# Altium footprint library ad.PcbLib: 129 footprints (part 4 of 12)
Each footprint in its own frame and in the unit in brackets; x right, y up, seen from the top. Pads: shape width x height; smd on the part's side, far side on the other; paste and mask are expansions set on the pad; w line width, h text height; cw(c..) or ccw(c..) is an arc to the next point about the centre after c.
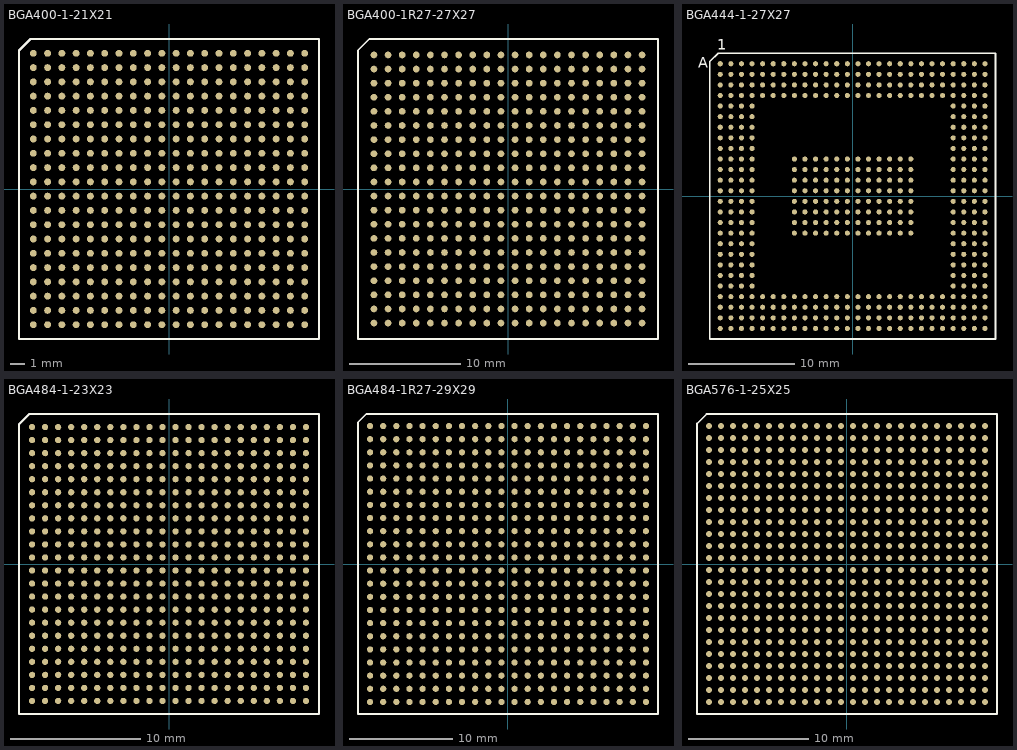
[diagram p3: the footprints below, top view; thin cyan lines are the x and y axes]

## BGA400-1-21X21 [mm]
pads (400):
  round 0.48 smd: A1(-9.5,9.5) A2(-8.5,9.5) A3(-7.5,9.5) A4(-6.5,9.5) A5(-5.5,9.5) A6(-4.5,9.5) A7(-3.5,9.5) A8(-2.5,9.5) A9(-1.5,9.5) A10(-0.5,9.5) A11(0.5,9.5) A12(1.5,9.5) A13(2.5,9.5) A14(3.5,9.5) A15(4.5,9.5) A16(5.5,9.5) A17(6.5,9.5) A18(7.5,9.5) A19(8.5,9.5) A20(9.5,9.5) B1(-9.5,8.5) B2(-8.5,8.5) B3(-7.5,8.5) B4(-6.5,8.5) B5(-5.5,8.5) B6(-4.5,8.5) B7(-3.5,8.5) B8(-2.5,8.5) B9(-1.5,8.5) B10(-0.5,8.5) B11(0.5,8.5) B12(1.5,8.5) B13(2.5,8.5) B14(3.5,8.5) B15(4.5,8.5) B16(5.5,8.5) B17(6.5,8.5) B18(7.5,8.5) B19(8.5,8.5) B20(9.5,8.5) C1(-9.5,7.5) C2(-8.5,7.5) C3(-7.5,7.5) C4(-6.5,7.5) C5(-5.5,7.5) C6(-4.5,7.5) C7(-3.5,7.5) C8(-2.5,7.5) C9(-1.5,7.5) C10(-0.5,7.5) C11(0.5,7.5) C12(1.5,7.5) C13(2.5,7.5) C14(3.5,7.5) C15(4.5,7.5) C16(5.5,7.5) C17(6.5,7.5) C18(7.5,7.5) C19(8.5,7.5) C20(9.5,7.5) D1(-9.5,6.5) D2(-8.5,6.5) D3(-7.5,6.5) D4(-6.5,6.5) D5(-5.5,6.5) D6(-4.5,6.5) D7(-3.5,6.5) D8(-2.5,6.5) D9(-1.5,6.5) D10(-0.5,6.5) D11(0.5,6.5) D12(1.5,6.5) D13(2.5,6.5) D14(3.5,6.5) D15(4.5,6.5) D16(5.5,6.5) D17(6.5,6.5) D18(7.5,6.5) D19(8.5,6.5) D20(9.5,6.5) E1(-9.5,5.5) E2(-8.5,5.5) E3(-7.5,5.5) E4(-6.5,5.5) E5(-5.5,5.5) E6(-4.5,5.5) E7(-3.5,5.5) E8(-2.5,5.5) E9(-1.5,5.5) E10(-0.5,5.5) E11(0.5,5.5) E12(1.5,5.5) E13(2.5,5.5) E14(3.5,5.5) E15(4.5,5.5) E16(5.5,5.5) E17(6.5,5.5) E18(7.5,5.5) E19(8.5,5.5) E20(9.5,5.5) F1(-9.5,4.5) F2(-8.5,4.5) F3(-7.5,4.5) F4(-6.5,4.5) F5(-5.5,4.5) F6(-4.5,4.5) F7(-3.5,4.5) F8(-2.5,4.5) F9(-1.5,4.5) F10(-0.5,4.5) F11(0.5,4.5) F12(1.5,4.5) F13(2.5,4.5) F14(3.5,4.5) F15(4.5,4.5) F16(5.5,4.5) F17(6.5,4.5) F18(7.5,4.5) F19(8.5,4.5) F20(9.5,4.5) G1(-9.5,3.5) G2(-8.5,3.5) G3(-7.5,3.5) G4(-6.5,3.5) G5(-5.5,3.5) G6(-4.5,3.5) G7(-3.5,3.5) G8(-2.5,3.5) G9(-1.5,3.5) G10(-0.5,3.5) G11(0.5,3.5) G12(1.5,3.5) G13(2.5,3.5) G14(3.5,3.5) G15(4.5,3.5) G16(5.5,3.5) G17(6.5,3.5) G18(7.5,3.5) G19(8.5,3.5) G20(9.5,3.5) H1(-9.5,2.5) H2(-8.5,2.5) H3(-7.5,2.5) H4(-6.5,2.5) H5(-5.5,2.5) H6(-4.5,2.5) H7(-3.5,2.5) H8(-2.5,2.5) H9(-1.5,2.5) H10(-0.5,2.5) H11(0.5,2.5) H12(1.5,2.5) H13(2.5,2.5) H14(3.5,2.5) H15(4.5,2.5) H16(5.5,2.5) H17(6.5,2.5) H18(7.5,2.5) H19(8.5,2.5) H20(9.5,2.5) J1(-9.5,1.5) J2(-8.5,1.5) J3(-7.5,1.5) J4(-6.5,1.5) J5(-5.5,1.5) J6(-4.5,1.5) J7(-3.5,1.5) J8(-2.5,1.5) J9(-1.5,1.5) J10(-0.5,1.5) J11(0.5,1.5) J12(1.5,1.5) J13(2.5,1.5) J14(3.5,1.5) J15(4.5,1.5) J16(5.5,1.5) J17(6.5,1.5) J18(7.5,1.5) J19(8.5,1.5) J20(9.5,1.5) K1(-9.5,0.5) K2(-8.5,0.5) K3(-7.5,0.5) K4(-6.5,0.5) K5(-5.5,0.5) K6(-4.5,0.5) K7(-3.5,0.5) K8(-2.5,0.5) K9(-1.5,0.5) K10(-0.5,0.5) K11(0.5,0.5) K12(1.5,0.5) K13(2.5,0.5) K14(3.5,0.5) K15(4.5,0.5) K16(5.5,0.5) K17(6.5,0.5) K18(7.5,0.5) K19(8.5,0.5) K20(9.5,0.5) L1(-9.5,-0.5) L2(-8.5,-0.5) L3(-7.5,-0.5) L4(-6.5,-0.5) L5(-5.5,-0.5) L6(-4.5,-0.5) L7(-3.5,-0.5) L8(-2.5,-0.5) L9(-1.5,-0.5) L10(-0.5,-0.5) L11(0.5,-0.5) L12(1.5,-0.5) L13(2.5,-0.5) L14(3.5,-0.5) L15(4.5,-0.5) L16(5.5,-0.5) L17(6.5,-0.5) L18(7.5,-0.5) L19(8.5,-0.5) L20(9.5,-0.5) M1(-9.5,-1.5) M2(-8.5,-1.5) M3(-7.5,-1.5) M4(-6.5,-1.5) M5(-5.5,-1.5) M6(-4.5,-1.5) M7(-3.5,-1.5) M8(-2.5,-1.5) M9(-1.5,-1.5) M10(-0.5,-1.5) M11(0.5,-1.5) M12(1.5,-1.5) M13(2.5,-1.5) M14(3.5,-1.5) M15(4.5,-1.5) M16(5.5,-1.5) M17(6.5,-1.5) M18(7.5,-1.5) M19(8.5,-1.5) M20(9.5,-1.5) N1(-9.5,-2.5) N2(-8.5,-2.5) N3(-7.5,-2.5) N4(-6.5,-2.5) N5(-5.5,-2.5) N6(-4.5,-2.5) N7(-3.5,-2.5) N8(-2.5,-2.5) N9(-1.5,-2.5) N10(-0.5,-2.5) N11(0.5,-2.5) N12(1.5,-2.5) N13(2.5,-2.5) N14(3.5,-2.5) N15(4.5,-2.5) N16(5.5,-2.5) N17(6.5,-2.5) N18(7.5,-2.5) N19(8.5,-2.5) N20(9.5,-2.5) P1(-9.5,-3.5) P2(-8.5,-3.5) P3(-7.5,-3.5) P4(-6.5,-3.5) P5(-5.5,-3.5) P6(-4.5,-3.5) P7(-3.5,-3.5) P8(-2.5,-3.5) P9(-1.5,-3.5) P10(-0.5,-3.5) P11(0.5,-3.5) P12(1.5,-3.5) P13(2.5,-3.5) P14(3.5,-3.5) P15(4.5,-3.5) P16(5.5,-3.5) P17(6.5,-3.5) P18(7.5,-3.5) P19(8.5,-3.5) P20(9.5,-3.5) R1(-9.5,-4.5) R2(-8.5,-4.5) R3(-7.5,-4.5) R4(-6.5,-4.5) R5(-5.5,-4.5) R6(-4.5,-4.5) R7(-3.5,-4.5) R8(-2.5,-4.5) R9(-1.5,-4.5) R10(-0.5,-4.5) R11(0.5,-4.5) R12(1.5,-4.5) R13(2.5,-4.5) R14(3.5,-4.5) R15(4.5,-4.5) R16(5.5,-4.5) R17(6.5,-4.5) R18(7.5,-4.5) R19(8.5,-4.5) R20(9.5,-4.5) T1(-9.5,-5.5) T2(-8.5,-5.5) T3(-7.5,-5.5) T4(-6.5,-5.5) T5(-5.5,-5.5) T6(-4.5,-5.5) T7(-3.5,-5.5) T8(-2.5,-5.5) T9(-1.5,-5.5) T10(-0.5,-5.5) T11(0.5,-5.5) T12(1.5,-5.5) T13(2.5,-5.5) T14(3.5,-5.5) T15(4.5,-5.5) T16(5.5,-5.5) T17(6.5,-5.5) T18(7.5,-5.5) T19(8.5,-5.5) T20(9.5,-5.5) U1(-9.5,-6.5) U2(-8.5,-6.5) U3(-7.5,-6.5) U4(-6.5,-6.5) U5(-5.5,-6.5) U6(-4.5,-6.5) U7(-3.5,-6.5) U8(-2.5,-6.5) U9(-1.5,-6.5) U10(-0.5,-6.5) U11(0.5,-6.5) U12(1.5,-6.5) U13(2.5,-6.5) U14(3.5,-6.5) U15(4.5,-6.5) U16(5.5,-6.5) U17(6.5,-6.5) U18(7.5,-6.5) U19(8.5,-6.5) U20(9.5,-6.5) V1(-9.5,-7.5) V2(-8.5,-7.5) V3(-7.5,-7.5) V4(-6.5,-7.5) V5(-5.5,-7.5) V6(-4.5,-7.5) V7(-3.5,-7.5) V8(-2.5,-7.5) V9(-1.5,-7.5) V10(-0.5,-7.5) V11(0.5,-7.5) V12(1.5,-7.5) V13(2.5,-7.5) V14(3.5,-7.5) V15(4.5,-7.5) V16(5.5,-7.5) V17(6.5,-7.5) V18(7.5,-7.5) V19(8.5,-7.5) V20(9.5,-7.5) W1(-9.5,-8.5) W2(-8.5,-8.5) W3(-7.5,-8.5) W4(-6.5,-8.5) W5(-5.5,-8.5) W6(-4.5,-8.5) W7(-3.5,-8.5) W8(-2.5,-8.5) W9(-1.5,-8.5) W10(-0.5,-8.5) W11(0.5,-8.5) W12(1.5,-8.5) W13(2.5,-8.5) W14(3.5,-8.5) W15(4.5,-8.5) W16(5.5,-8.5) W17(6.5,-8.5) W18(7.5,-8.5) W19(8.5,-8.5) W20(9.5,-8.5) Y1(-9.5,-9.5) Y2(-8.5,-9.5) Y3(-7.5,-9.5) Y4(-6.5,-9.5) Y5(-5.5,-9.5) Y6(-4.5,-9.5) Y7(-3.5,-9.5) Y8(-2.5,-9.5) Y9(-1.5,-9.5) Y10(-0.5,-9.5) Y11(0.5,-9.5) Y12(1.5,-9.5) Y13(2.5,-9.5) Y14(3.5,-9.5) Y15(4.5,-9.5) Y16(5.5,-9.5) Y17(6.5,-9.5) Y18(7.5,-9.5) Y19(8.5,-9.5) Y20(9.5,-9.5)
Top Overlay:
  lines w0.15: -10.5,-10.5 -10.5,9.7 -9.7,10.5 10.5,10.5 10.5,-10.5 -10.5,-10.5

## BGA400-1R27-27X27 [mm]
pads (400):
  round 0.6 smd: A1(-12.065,12.065) A2(-10.795,12.065) A3(-9.525,12.065) A4(-8.255,12.065) A5(-6.985,12.065) A6(-5.715,12.065) A7(-4.445,12.065) A8(-3.175,12.065) A9(-1.905,12.065) A10(-0.635,12.065) A11(0.635,12.065) A12(1.905,12.065) A13(3.175,12.065) A14(4.445,12.065) A15(5.715,12.065) A16(6.985,12.065) A17(8.255,12.065) A18(9.525,12.065) A19(10.795,12.065) A20(12.065,12.065) B1(-12.065,10.795) B2(-10.795,10.795) B3(-9.525,10.795) B4(-8.255,10.795) B5(-6.985,10.795) B6(-5.715,10.795) B7(-4.445,10.795) B8(-3.175,10.795) B9(-1.905,10.795) B10(-0.635,10.795) B11(0.635,10.795) B12(1.905,10.795) B13(3.175,10.795) B14(4.445,10.795) B15(5.715,10.795) B16(6.985,10.795) B17(8.255,10.795) B18(9.525,10.795) B19(10.795,10.795) B20(12.065,10.795) C1(-12.065,9.525) C2(-10.795,9.525) C3(-9.525,9.525) C4(-8.255,9.525) C5(-6.985,9.525) C6(-5.715,9.525) C7(-4.445,9.525) C8(-3.175,9.525) C9(-1.905,9.525) C10(-0.635,9.525) C11(0.635,9.525) C12(1.905,9.525) C13(3.175,9.525) C14(4.445,9.525) C15(5.715,9.525) C16(6.985,9.525) C17(8.255,9.525) C18(9.525,9.525) C19(10.795,9.525) C20(12.065,9.525) D1(-12.065,8.255) D2(-10.795,8.255) D3(-9.525,8.255) D4(-8.255,8.255) D5(-6.985,8.255) D6(-5.715,8.255) D7(-4.445,8.255) D8(-3.175,8.255) D9(-1.905,8.255) D10(-0.635,8.255) D11(0.635,8.255) D12(1.905,8.255) D13(3.175,8.255) D14(4.445,8.255) D15(5.715,8.255) D16(6.985,8.255) D17(8.255,8.255) D18(9.525,8.255) D19(10.795,8.255) D20(12.065,8.255) E1(-12.065,6.985) E2(-10.795,6.985) E3(-9.525,6.985) E4(-8.255,6.985) E5(-6.985,6.985) E6(-5.715,6.985) E7(-4.445,6.985) E8(-3.175,6.985) E9(-1.905,6.985) E10(-0.635,6.985) E11(0.635,6.985) E12(1.905,6.985) E13(3.175,6.985) E14(4.445,6.985) E15(5.715,6.985) E16(6.985,6.985) E17(8.255,6.985) E18(9.525,6.985) E19(10.795,6.985) E20(12.065,6.985) F1(-12.065,5.715) F2(-10.795,5.715) F3(-9.525,5.715) F4(-8.255,5.715) F5(-6.985,5.715) F6(-5.715,5.715) F7(-4.445,5.715) F8(-3.175,5.715) F9(-1.905,5.715) F10(-0.635,5.715) F11(0.635,5.715) F12(1.905,5.715) F13(3.175,5.715) F14(4.445,5.715) F15(5.715,5.715) F16(6.985,5.715) F17(8.255,5.715) F18(9.525,5.715) F19(10.795,5.715) F20(12.065,5.715) G1(-12.065,4.445) G2(-10.795,4.445) G3(-9.525,4.445) G4(-8.255,4.445) G5(-6.985,4.445) G6(-5.715,4.445) G7(-4.445,4.445) G8(-3.175,4.445) G9(-1.905,4.445) G10(-0.635,4.445) G11(0.635,4.445) G12(1.905,4.445) G13(3.175,4.445) G14(4.445,4.445) G15(5.715,4.445) G16(6.985,4.445) G17(8.255,4.445) G18(9.525,4.445) G19(10.795,4.445) G20(12.065,4.445) H1(-12.065,3.175) H2(-10.795,3.175) H3(-9.525,3.175) H4(-8.255,3.175) H5(-6.985,3.175) H6(-5.715,3.175) H7(-4.445,3.175) H8(-3.175,3.175) H9(-1.905,3.175) H10(-0.635,3.175) H11(0.635,3.175) H12(1.905,3.175) H13(3.175,3.175) H14(4.445,3.175) H15(5.715,3.175) H16(6.985,3.175) H17(8.255,3.175) H18(9.525,3.175) H19(10.795,3.175) H20(12.065,3.175) J1(-12.065,1.905) J2(-10.795,1.905) J3(-9.525,1.905) J4(-8.255,1.905) J5(-6.985,1.905) J6(-5.715,1.905) J7(-4.445,1.905) J8(-3.175,1.905) J9(-1.905,1.905) J10(-0.635,1.905) J11(0.635,1.905) J12(1.905,1.905) J13(3.175,1.905) J14(4.445,1.905) J15(5.715,1.905) J16(6.985,1.905) J17(8.255,1.905) J18(9.525,1.905) J19(10.795,1.905) J20(12.065,1.905) K1(-12.065,0.635) K2(-10.795,0.635) K3(-9.525,0.635) K4(-8.255,0.635) K5(-6.985,0.635) K6(-5.715,0.635) K7(-4.445,0.635) K8(-3.175,0.635) K9(-1.905,0.635) K10(-0.635,0.635) K11(0.635,0.635) K12(1.905,0.635) K13(3.175,0.635) K14(4.445,0.635) K15(5.715,0.635) K16(6.985,0.635) K17(8.255,0.635) K18(9.525,0.635) K19(10.795,0.635) K20(12.065,0.635) L1(-12.065,-0.635) L2(-10.795,-0.635) L3(-9.525,-0.635) L4(-8.255,-0.635) L5(-6.985,-0.635) L6(-5.715,-0.635) L7(-4.445,-0.635) L8(-3.175,-0.635) L9(-1.905,-0.635) L10(-0.635,-0.635) L11(0.635,-0.635) L12(1.905,-0.635) L13(3.175,-0.635) L14(4.445,-0.635) L15(5.715,-0.635) L16(6.985,-0.635) L17(8.255,-0.635) L18(9.525,-0.635) L19(10.795,-0.635) L20(12.065,-0.635) M1(-12.065,-1.905) M2(-10.795,-1.905) M3(-9.525,-1.905) M4(-8.255,-1.905) M5(-6.985,-1.905) M6(-5.715,-1.905) M7(-4.445,-1.905) M8(-3.175,-1.905) M9(-1.905,-1.905) M10(-0.635,-1.905) M11(0.635,-1.905) M12(1.905,-1.905) M13(3.175,-1.905) M14(4.445,-1.905) M15(5.715,-1.905) M16(6.985,-1.905) M17(8.255,-1.905) M18(9.525,-1.905) M19(10.795,-1.905) M20(12.065,-1.905) N1(-12.065,-3.175) N2(-10.795,-3.175) N3(-9.525,-3.175) N4(-8.255,-3.175) N5(-6.985,-3.175) N6(-5.715,-3.175) N7(-4.445,-3.175) N8(-3.175,-3.175) N9(-1.905,-3.175) N10(-0.635,-3.175) N11(0.635,-3.175) N12(1.905,-3.175) N13(3.175,-3.175) N14(4.445,-3.175) N15(5.715,-3.175) N16(6.985,-3.175) N17(8.255,-3.175) N18(9.525,-3.175) N19(10.795,-3.175) N20(12.065,-3.175) P1(-12.065,-4.445) P2(-10.795,-4.445) P3(-9.525,-4.445) P4(-8.255,-4.445) P5(-6.985,-4.445) P6(-5.715,-4.445) P7(-4.445,-4.445) P8(-3.175,-4.445) P9(-1.905,-4.445) P10(-0.635,-4.445) P11(0.635,-4.445) P12(1.905,-4.445) P13(3.175,-4.445) P14(4.445,-4.445) P15(5.715,-4.445) P16(6.985,-4.445) P17(8.255,-4.445) P18(9.525,-4.445) P19(10.795,-4.445) P20(12.065,-4.445) R1(-12.065,-5.715) R2(-10.795,-5.715) R3(-9.525,-5.715) R4(-8.255,-5.715) R5(-6.985,-5.715) R6(-5.715,-5.715) R7(-4.445,-5.715) R8(-3.175,-5.715) R9(-1.905,-5.715) R10(-0.635,-5.715) R11(0.635,-5.715) R12(1.905,-5.715) R13(3.175,-5.715) R14(4.445,-5.715) R15(5.715,-5.715) R16(6.985,-5.715) R17(8.255,-5.715) R18(9.525,-5.715) R19(10.795,-5.715) R20(12.065,-5.715) T1(-12.065,-6.985) T2(-10.795,-6.985) T3(-9.525,-6.985) T4(-8.255,-6.985) T5(-6.985,-6.985) T6(-5.715,-6.985) T7(-4.445,-6.985) T8(-3.175,-6.985) T9(-1.905,-6.985) T10(-0.635,-6.985) T11(0.635,-6.985) T12(1.905,-6.985) T13(3.175,-6.985) T14(4.445,-6.985) T15(5.715,-6.985) T16(6.985,-6.985) T17(8.255,-6.985) T18(9.525,-6.985) T19(10.795,-6.985) T20(12.065,-6.985) U1(-12.065,-8.255) U2(-10.795,-8.255) U3(-9.525,-8.255) U4(-8.255,-8.255) U5(-6.985,-8.255) U6(-5.715,-8.255) U7(-4.445,-8.255) U8(-3.175,-8.255) U9(-1.905,-8.255) U10(-0.635,-8.255) U11(0.635,-8.255) U12(1.905,-8.255) U13(3.175,-8.255) U14(4.445,-8.255) U15(5.715,-8.255) U16(6.985,-8.255) U17(8.255,-8.255) U18(9.525,-8.255) U19(10.795,-8.255) U20(12.065,-8.255) V1(-12.065,-9.525) V2(-10.795,-9.525) V3(-9.525,-9.525) V4(-8.255,-9.525) V5(-6.985,-9.525) V6(-5.715,-9.525) V7(-4.445,-9.525) V8(-3.175,-9.525) V9(-1.905,-9.525) V10(-0.635,-9.525) V11(0.635,-9.525) V12(1.905,-9.525) V13(3.175,-9.525) V14(4.445,-9.525) V15(5.715,-9.525) V16(6.985,-9.525) V17(8.255,-9.525) V18(9.525,-9.525) V19(10.795,-9.525) V20(12.065,-9.525) W1(-12.065,-10.795) W2(-10.795,-10.795) W3(-9.525,-10.795) W4(-8.255,-10.795) W5(-6.985,-10.795) W6(-5.715,-10.795) W7(-4.445,-10.795) W8(-3.175,-10.795) W9(-1.905,-10.795) W10(-0.635,-10.795) W11(0.635,-10.795) W12(1.905,-10.795) W13(3.175,-10.795) W14(4.445,-10.795) W15(5.715,-10.795) W16(6.985,-10.795) W17(8.255,-10.795) W18(9.525,-10.795) W19(10.795,-10.795) W20(12.065,-10.795) Y1(-12.065,-12.065) Y2(-10.795,-12.065) Y3(-9.525,-12.065) Y4(-8.255,-12.065) Y5(-6.985,-12.065) Y6(-5.715,-12.065) Y7(-4.445,-12.065) Y8(-3.175,-12.065) Y9(-1.905,-12.065) Y10(-0.635,-12.065) Y11(0.635,-12.065) Y12(1.905,-12.065) Y13(3.175,-12.065) Y14(4.445,-12.065) Y15(5.715,-12.065) Y16(6.985,-12.065) Y17(8.255,-12.065) Y18(9.525,-12.065) Y19(10.795,-12.065) Y20(12.065,-12.065)
Top Overlay:
  lines w0.15: -13.5,-13.5 -13.5,12.5 -12.5,13.5 13.5,13.5 13.5,-13.5 -13.5,-13.5

## BGA444-1-27X27 [mm]
pads (448):
  round 0.48 smd: A1(-12.5,12.5) A2(-11.5,12.5) A3(-10.5,12.5) A4(-9.5,12.5) A5(-8.5,12.5) A6(-7.5,12.5) A7(-6.5,12.5) A8(-5.5,12.5) A9(-4.5,12.5) A10(-3.5,12.5) A11(-2.5,12.5) A12(-1.5,12.5) A13(-0.5,12.5) A14(0.5,12.5) A15(1.5,12.5) A16(2.5,12.5) A17(3.5,12.5) A18(4.5,12.5) A19(5.5,12.5) A20(6.5,12.5) A21(7.5,12.5) A22(8.5,12.5) A23(9.5,12.5) A24(10.5,12.5) A25(11.5,12.5) A26(12.5,12.5) AA1(-12.5,-7.5) AA2(-11.5,-7.5) AA3(-10.5,-7.5) AA4(-9.5,-7.5) AA23(9.5,-7.5) AA24(10.5,-7.5) AA25(11.5,-7.5) AA26(12.5,-7.5) AB1(-12.5,-8.5) AB2(-11.5,-8.5) AB3(-10.5,-8.5) AB4(-9.5,-8.5) AB23(9.5,-8.5) AB24(10.5,-8.5) AB25(11.5,-8.5) AB26(12.5,-8.5) AC1(-12.5,-9.5) AC2(-11.5,-9.5) AC3(-10.5,-9.5) AC4(-9.5,-9.5) AC5(-8.5,-9.5) AC6(-7.5,-9.5) AC7(-6.5,-9.5) AC8(-5.5,-9.5) AC9(-4.5,-9.5) AC10(-3.5,-9.5) AC11(-2.5,-9.5) AC12(-1.5,-9.5) AC13(-0.5,-9.5) AC14(0.5,-9.5) AC15(1.5,-9.5) AC16(2.5,-9.5) AC17(3.5,-9.5) AC18(4.5,-9.5) AC19(5.5,-9.5) AC20(6.5,-9.5) AC21(7.5,-9.5) AC22(8.5,-9.5) AC23(9.5,-9.5) AC24(10.5,-9.5) AC25(11.5,-9.5) AC26(12.5,-9.5) AD1(-12.5,-10.5) AD2(-11.5,-10.5) AD3(-10.5,-10.5) AD4(-9.5,-10.5) AD5(-8.5,-10.5) AD6(-7.5,-10.5) AD7(-6.5,-10.5) AD8(-5.5,-10.5) AD9(-4.5,-10.5) AD10(-3.5,-10.5) AD11(-2.5,-10.5) AD12(-1.5,-10.5) AD13(-0.5,-10.5) AD14(0.5,-10.5) AD15(1.5,-10.5) AD16(2.5,-10.5) AD17(3.5,-10.5) AD18(4.5,-10.5) AD19(5.5,-10.5) AD20(6.5,-10.5) AD21(7.5,-10.5) AD22(8.5,-10.5) AD23(9.5,-10.5) AD24(10.5,-10.5) AD25(11.5,-10.5) AD26(12.5,-10.5) AE1(-12.5,-11.5) AE2(-11.5,-11.5) AE3(-10.5,-11.5) AE4(-9.5,-11.5) AE5(-8.5,-11.5) AE6(-7.5,-11.5) AE7(-6.5,-11.5) AE8(-5.5,-11.5) AE9(-4.5,-11.5) AE10(-3.5,-11.5) AE11(-2.5,-11.5) AE12(-1.5,-11.5) AE13(-0.5,-11.5) AE14(0.5,-11.5) AE15(1.5,-11.5) AE16(2.5,-11.5) AE17(3.5,-11.5) AE18(4.5,-11.5) AE19(5.5,-11.5) AE20(6.5,-11.5) AE21(7.5,-11.5) AE22(8.5,-11.5) AE23(9.5,-11.5) AE24(10.5,-11.5) AE25(11.5,-11.5) AE26(12.5,-11.5) AF1(-12.5,-12.5) AF2(-11.5,-12.5) AF3(-10.5,-12.5) AF4(-9.5,-12.5) AF5(-8.5,-12.5) AF6(-7.5,-12.5) AF7(-6.5,-12.5) AF8(-5.5,-12.5) AF9(-4.5,-12.5) AF10(-3.5,-12.5) AF11(-2.5,-12.5) AF12(-1.5,-12.5) AF13(-0.5,-12.5) AF14(0.5,-12.5) AF15(1.5,-12.5) AF16(2.5,-12.5) AF17(3.5,-12.5) AF18(4.5,-12.5) AF19(5.5,-12.5) AF20(6.5,-12.5) AF21(7.5,-12.5) AF22(8.5,-12.5) AF23(9.5,-12.5) AF24(10.5,-12.5) AF25(11.5,-12.5) AF26(12.5,-12.5) B1(-12.5,11.5) B2(-11.5,11.5) B3(-10.5,11.5) B4(-9.5,11.5) B5(-8.5,11.5) B6(-7.5,11.5) B7(-6.5,11.5) B8(-5.5,11.5) B9(-4.5,11.5) B10(-3.5,11.5) B11(-2.5,11.5) B12(-1.5,11.5) B13(-0.5,11.5) B14(0.5,11.5) B15(1.5,11.5) B16(2.5,11.5) B17(3.5,11.5) B18(4.5,11.5) B19(5.5,11.5) B20(6.5,11.5) B21(7.5,11.5) B22(8.5,11.5) B23(9.5,11.5) B24(10.5,11.5) B25(11.5,11.5) B26(12.5,11.5) C1(-12.5,10.5) C2(-11.5,10.5) C3(-10.5,10.5) C4(-9.5,10.5) C5(-8.5,10.5) C6(-7.5,10.5) C7(-6.5,10.5) C8(-5.5,10.5) C9(-4.5,10.5) C10(-3.5,10.5) C11(-2.5,10.5) C12(-1.5,10.5) C13(-0.5,10.5) C14(0.5,10.5) C15(1.5,10.5) C16(2.5,10.5) C17(3.5,10.5) C18(4.5,10.5) C19(5.5,10.5) C20(6.5,10.5) C21(7.5,10.5) C22(8.5,10.5) C23(9.5,10.5) C24(10.5,10.5) C25(11.5,10.5) C26(12.5,10.5) D1(-12.5,9.5) D2(-11.5,9.5) D3(-10.5,9.5) D4(-9.5,9.5) D5(-8.5,9.5) D6(-7.5,9.5) D7(-6.5,9.5) D8(-5.5,9.5) D9(-4.5,9.5) D10(-3.5,9.5) D11(-2.5,9.5) D12(-1.5,9.5) D13(-0.5,9.5) D14(0.5,9.5) D15(1.5,9.5) D16(2.5,9.5) D17(3.5,9.5) D18(4.5,9.5) D19(5.5,9.5) D20(6.5,9.5) D21(7.5,9.5) D22(8.5,9.5) D23(9.5,9.5) D24(10.5,9.5) D25(11.5,9.5) D26(12.5,9.5) E1(-12.5,8.5) E2(-11.5,8.5) E3(-10.5,8.5) E4(-9.5,8.5) E23(9.5,8.5) E24(10.5,8.5) E25(11.5,8.5) E26(12.5,8.5) F1(-12.5,7.5) F2(-11.5,7.5) F3(-10.5,7.5) F4(-9.5,7.5) F23(9.5,7.5) F24(10.5,7.5) F25(11.5,7.5) F26(12.5,7.5) G1(-12.5,6.5) G2(-11.5,6.5) G3(-10.5,6.5) G4(-9.5,6.5) G23(9.5,6.5) G24(10.5,6.5) G25(11.5,6.5) G26(12.5,6.5) H1(-12.5,5.5) H2(-11.5,5.5) H3(-10.5,5.5) H4(-9.5,5.5) H23(9.5,5.5) H24(10.5,5.5) H25(11.5,5.5) H26(12.5,5.5) J1(-12.5,4.5) J2(-11.5,4.5) J3(-10.5,4.5) J4(-9.5,4.5) J23(9.5,4.5) J24(10.5,4.5) J25(11.5,4.5) J26(12.5,4.5) K1(-12.5,3.5) K2(-11.5,3.5) K3(-10.5,3.5) K4(-9.5,3.5) K8(-5.5,3.5) K9(-4.5,3.5) K10(-3.5,3.5) K11(-2.5,3.5) K12(-1.5,3.5) K13(-0.5,3.5) K14(0.5,3.5) K15(1.5,3.5) K16(2.5,3.5) K17(3.5,3.5) K18(4.5,3.5) K19(5.5,3.5) K23(9.5,3.5) K24(10.5,3.5) K25(11.5,3.5) K26(12.5,3.5) L1(-12.5,2.5) L2(-11.5,2.5) L3(-10.5,2.5) L4(-9.5,2.5) L8(-5.5,2.5) L9(-4.5,2.5) L10(-3.5,2.5) L11(-2.5,2.5) L12(-1.5,2.5) L13(-0.5,2.5) L14(0.5,2.5) L15(1.5,2.5) L16(2.5,2.5) L17(3.5,2.5) L18(4.5,2.5) L19(5.5,2.5) L23(9.5,2.5) L24(10.5,2.5) L25(11.5,2.5) L26(12.5,2.5) M1(-12.5,1.5) M2(-11.5,1.5) M3(-10.5,1.5) M4(-9.5,1.5) M8(-5.5,1.5) M9(-4.5,1.5) M10(-3.5,1.5) M11(-2.5,1.5) M12(-1.5,1.5) M13(-0.5,1.5) M14(0.5,1.5) M15(1.5,1.5) M16(2.5,1.5) M17(3.5,1.5) M18(4.5,1.5) M19(5.5,1.5) M23(9.5,1.5) M24(10.5,1.5) M25(11.5,1.5) M26(12.5,1.5) N1(-12.5,0.5) N2(-11.5,0.5) N3(-10.5,0.5) N4(-9.5,0.5) N8(-5.5,0.5) N9(-4.5,0.5) N10(-3.5,0.5) N11(-2.5,0.5) N12(-1.5,0.5) N13(-0.5,0.5) N14(0.5,0.5) N15(1.5,0.5) N16(2.5,0.5) N17(3.5,0.5) N18(4.5,0.5) N19(5.5,0.5) N23(9.5,0.5) N24(10.5,0.5) N25(11.5,0.5) N26(12.5,0.5) P1(-12.5,-0.5) P2(-11.5,-0.5) P3(-10.5,-0.5) P4(-9.5,-0.5) P8(-5.5,-0.5) P9(-4.5,-0.5) P10(-3.5,-0.5) P11(-2.5,-0.5) P12(-1.5,-0.5) P13(-0.5,-0.5) P14(0.5,-0.5) P15(1.5,-0.5) P16(2.5,-0.5) P17(3.5,-0.5) P18(4.5,-0.5) P19(5.5,-0.5) P23(9.5,-0.5) P24(10.5,-0.5) P25(11.5,-0.5) P26(12.5,-0.5) R1(-12.5,-1.5) R2(-11.5,-1.5) R3(-10.5,-1.5) R4(-9.5,-1.5) R8(-5.5,-1.5) R9(-4.5,-1.5) R10(-3.5,-1.5) R11(-2.5,-1.5) R12(-1.5,-1.5) R13(-0.5,-1.5) R14(0.5,-1.5) R15(1.5,-1.5) R16(2.5,-1.5) R17(3.5,-1.5) R18(4.5,-1.5) R19(5.5,-1.5) R23(9.5,-1.5) R24(10.5,-1.5) R25(11.5,-1.5) R26(12.5,-1.5) T1(-12.5,-2.5) T2(-11.5,-2.5) T3(-10.5,-2.5) T4(-9.5,-2.5) T8(-5.5,-2.5) T9(-4.5,-2.5) T10(-3.5,-2.5) T11(-2.5,-2.5) T12(-1.5,-2.5) T13(-0.5,-2.5) T14(0.5,-2.5) T15(1.5,-2.5) T16(2.5,-2.5) T17(3.5,-2.5) T18(4.5,-2.5) T19(5.5,-2.5) T23(9.5,-2.5) T24(10.5,-2.5) T25(11.5,-2.5) T26(12.5,-2.5) U1(-12.5,-3.5) U2(-11.5,-3.5) U3(-10.5,-3.5) U4(-9.5,-3.5) U8(-5.5,-3.5) U9(-4.5,-3.5) U10(-3.5,-3.5) U11(-2.5,-3.5) U12(-1.5,-3.5) U13(-0.5,-3.5) U14(0.5,-3.5) U15(1.5,-3.5) U16(2.5,-3.5) U17(3.5,-3.5) U18(4.5,-3.5) U19(5.5,-3.5) U23(9.5,-3.5) U24(10.5,-3.5) U25(11.5,-3.5) U26(12.5,-3.5) V1(-12.5,-4.5) V2(-11.5,-4.5) V3(-10.5,-4.5) V4(-9.5,-4.5) V23(9.5,-4.5) V24(10.5,-4.5) V25(11.5,-4.5) V26(12.5,-4.5) W1(-12.5,-5.5) W2(-11.5,-5.5) W3(-10.5,-5.5) W4(-9.5,-5.5) W23(9.5,-5.5) W24(10.5,-5.5) W25(11.5,-5.5) W26(12.5,-5.5) Y1(-12.5,-6.5) Y2(-11.5,-6.5) Y3(-10.5,-6.5) Y4(-9.5,-6.5) Y23(9.5,-6.5) Y24(10.5,-6.5) Y25(11.5,-6.5) Y26(12.5,-6.5)
Top Overlay:
  lines w0.15: -13.5,-13.5 -13.5,12.7 -12.7,13.5 13.5,13.5 13.5,-13.5 -13.5,-13.5
  text "1" at -12.77,13.82 h1.02
  text "A" at -14.56,12.13 h1.02

## BGA484-1-23X23 [mm]
pads (484):
  round 0.48 smd: A1(-10.5,10.5) A2(-9.5,10.5) A3(-8.5,10.5) A4(-7.5,10.5) A5(-6.5,10.5) A6(-5.5,10.5) A7(-4.5,10.5) A8(-3.5,10.5) A9(-2.5,10.5) A10(-1.5,10.5) A11(-0.5,10.5) A12(0.5,10.5) A13(1.5,10.5) A14(2.5,10.5) A15(3.5,10.5) A16(4.5,10.5) A17(5.5,10.5) A18(6.5,10.5) A19(7.5,10.5) A20(8.5,10.5) A21(9.5,10.5) A22(10.5,10.5) AA1(-10.5,-9.5) AA2(-9.5,-9.5) AA3(-8.5,-9.5) AA4(-7.5,-9.5) AA5(-6.5,-9.5) AA6(-5.5,-9.5) AA7(-4.5,-9.5) AA8(-3.5,-9.5) AA9(-2.5,-9.5) AA10(-1.5,-9.5) AA11(-0.5,-9.5) AA12(0.5,-9.5) AA13(1.5,-9.5) AA14(2.5,-9.5) AA15(3.5,-9.5) AA16(4.5,-9.5) AA17(5.5,-9.5) AA18(6.5,-9.5) AA19(7.5,-9.5) AA20(8.5,-9.5) AA21(9.5,-9.5) AA22(10.5,-9.5) AB1(-10.5,-10.5) AB2(-9.5,-10.5) AB3(-8.5,-10.5) AB4(-7.5,-10.5) AB5(-6.5,-10.5) AB6(-5.5,-10.5) AB7(-4.5,-10.5) AB8(-3.5,-10.5) AB9(-2.5,-10.5) AB10(-1.5,-10.5) AB11(-0.5,-10.5) AB12(0.5,-10.5) AB13(1.5,-10.5) AB14(2.5,-10.5) AB15(3.5,-10.5) AB16(4.5,-10.5) AB17(5.5,-10.5) AB18(6.5,-10.5) AB19(7.5,-10.5) AB20(8.5,-10.5) AB21(9.5,-10.5) AB22(10.5,-10.5) B1(-10.5,9.5) B2(-9.5,9.5) B3(-8.5,9.5) B4(-7.5,9.5) B5(-6.5,9.5) B6(-5.5,9.5) B7(-4.5,9.5) B8(-3.5,9.5) B9(-2.5,9.5) B10(-1.5,9.5) B11(-0.5,9.5) B12(0.5,9.5) B13(1.5,9.5) B14(2.5,9.5) B15(3.5,9.5) B16(4.5,9.5) B17(5.5,9.5) B18(6.5,9.5) B19(7.5,9.5) B20(8.5,9.5) B21(9.5,9.5) B22(10.5,9.5) C1(-10.5,8.5) C2(-9.5,8.5) C3(-8.5,8.5) C4(-7.5,8.5) C5(-6.5,8.5) C6(-5.5,8.5) C7(-4.5,8.5) C8(-3.5,8.5) C9(-2.5,8.5) C10(-1.5,8.5) C11(-0.5,8.5) C12(0.5,8.5) C13(1.5,8.5) C14(2.5,8.5) C15(3.5,8.5) C16(4.5,8.5) C17(5.5,8.5) C18(6.5,8.5) C19(7.5,8.5) C20(8.5,8.5) C21(9.5,8.5) C22(10.5,8.5) D1(-10.5,7.5) D2(-9.5,7.5) D3(-8.5,7.5) D4(-7.5,7.5) D5(-6.5,7.5) D6(-5.5,7.5) D7(-4.5,7.5) D8(-3.5,7.5) D9(-2.5,7.5) D10(-1.5,7.5) D11(-0.5,7.5) D12(0.5,7.5) D13(1.5,7.5) D14(2.5,7.5) D15(3.5,7.5) D16(4.5,7.5) D17(5.5,7.5) D18(6.5,7.5) D19(7.5,7.5) D20(8.5,7.5) D21(9.5,7.5) D22(10.5,7.5) E1(-10.5,6.5) E2(-9.5,6.5) E3(-8.5,6.5) E4(-7.5,6.5) E5(-6.5,6.5) E6(-5.5,6.5) E7(-4.5,6.5) E8(-3.5,6.5) E9(-2.5,6.5) E10(-1.5,6.5) E11(-0.5,6.5) E12(0.5,6.5) E13(1.5,6.5) E14(2.5,6.5) E15(3.5,6.5) E16(4.5,6.5) E17(5.5,6.5) E18(6.5,6.5) E19(7.5,6.5) E20(8.5,6.5) E21(9.5,6.5) E22(10.5,6.5) F1(-10.5,5.5) F2(-9.5,5.5) F3(-8.5,5.5) F4(-7.5,5.5) F5(-6.5,5.5) F6(-5.5,5.5) F7(-4.5,5.5) F8(-3.5,5.5) F9(-2.5,5.5) F10(-1.5,5.5) F11(-0.5,5.5) F12(0.5,5.5) F13(1.5,5.5) F14(2.5,5.5) F15(3.5,5.5) F16(4.5,5.5) F17(5.5,5.5) F18(6.5,5.5) F19(7.5,5.5) F20(8.5,5.5) F21(9.5,5.5) F22(10.5,5.5) G1(-10.5,4.5) G2(-9.5,4.5) G3(-8.5,4.5) G4(-7.5,4.5) G5(-6.5,4.5) G6(-5.5,4.5) G7(-4.5,4.5) G8(-3.5,4.5) G9(-2.5,4.5) G10(-1.5,4.5) G11(-0.5,4.5) G12(0.5,4.5) G13(1.5,4.5) G14(2.5,4.5) G15(3.5,4.5) G16(4.5,4.5) G17(5.5,4.5) G18(6.5,4.5) G19(7.5,4.5) G20(8.5,4.5) G21(9.5,4.5) G22(10.5,4.5) H1(-10.5,3.5) H2(-9.5,3.5) H3(-8.5,3.5) H4(-7.5,3.5) H5(-6.5,3.5) H6(-5.5,3.5) H7(-4.5,3.5) H8(-3.5,3.5) H9(-2.5,3.5) H10(-1.5,3.5) H11(-0.5,3.5) H12(0.5,3.5) H13(1.5,3.5) H14(2.5,3.5) H15(3.5,3.5) H16(4.5,3.5) H17(5.5,3.5) H18(6.5,3.5) H19(7.5,3.5) H20(8.5,3.5) H21(9.5,3.5) H22(10.5,3.5) J1(-10.5,2.5) J2(-9.5,2.5) J3(-8.5,2.5) J4(-7.5,2.5) J5(-6.5,2.5) J6(-5.5,2.5) J7(-4.5,2.5) J8(-3.5,2.5) J9(-2.5,2.5) J10(-1.5,2.5) J11(-0.5,2.5) J12(0.5,2.5) J13(1.5,2.5) J14(2.5,2.5) J15(3.5,2.5) J16(4.5,2.5) J17(5.5,2.5) J18(6.5,2.5) J19(7.5,2.5) J20(8.5,2.5) J21(9.5,2.5) J22(10.5,2.5) K1(-10.5,1.5) K2(-9.5,1.5) K3(-8.5,1.5) K4(-7.5,1.5) K5(-6.5,1.5) K6(-5.5,1.5) K7(-4.5,1.5) K8(-3.5,1.5) K9(-2.5,1.5) K10(-1.5,1.5) K11(-0.5,1.5) K12(0.5,1.5) K13(1.5,1.5) K14(2.5,1.5) K15(3.5,1.5) K16(4.5,1.5) K17(5.5,1.5) K18(6.5,1.5) K19(7.5,1.5) K20(8.5,1.5) K21(9.5,1.5) K22(10.5,1.5) L1(-10.5,0.5) L2(-9.5,0.5) L3(-8.5,0.5) L4(-7.5,0.5) L5(-6.5,0.5) L6(-5.5,0.5) L7(-4.5,0.5) L8(-3.5,0.5) L9(-2.5,0.5) L10(-1.5,0.5) L11(-0.5,0.5) L12(0.5,0.5) L13(1.5,0.5) L14(2.5,0.5) L15(3.5,0.5) L16(4.5,0.5) L17(5.5,0.5) L18(6.5,0.5) L19(7.5,0.5) L20(8.5,0.5) L21(9.5,0.5) L22(10.5,0.5) M1(-10.5,-0.5) M2(-9.5,-0.5) M3(-8.5,-0.5) M4(-7.5,-0.5) M5(-6.5,-0.5) M6(-5.5,-0.5) M7(-4.5,-0.5) M8(-3.5,-0.5) M9(-2.5,-0.5) M10(-1.5,-0.5) M11(-0.5,-0.5) M12(0.5,-0.5) M13(1.5,-0.5) M14(2.5,-0.5) M15(3.5,-0.5) M16(4.5,-0.5) M17(5.5,-0.5) M18(6.5,-0.5) M19(7.5,-0.5) M20(8.5,-0.5) M21(9.5,-0.5) M22(10.5,-0.5) N1(-10.5,-1.5) N2(-9.5,-1.5) N3(-8.5,-1.5) N4(-7.5,-1.5) N5(-6.5,-1.5) N6(-5.5,-1.5) N7(-4.5,-1.5) N8(-3.5,-1.5) N9(-2.5,-1.5) N10(-1.5,-1.5) N11(-0.5,-1.5) N12(0.5,-1.5) N13(1.5,-1.5) N14(2.5,-1.5) N15(3.5,-1.5) N16(4.5,-1.5) N17(5.5,-1.5) N18(6.5,-1.5) N19(7.5,-1.5) N20(8.5,-1.5) N21(9.5,-1.5) N22(10.5,-1.5) P1(-10.5,-2.5) P2(-9.5,-2.5) P3(-8.5,-2.5) P4(-7.5,-2.5) P5(-6.5,-2.5) P6(-5.5,-2.5) P7(-4.5,-2.5) P8(-3.5,-2.5) P9(-2.5,-2.5) P10(-1.5,-2.5) P11(-0.5,-2.5) P12(0.5,-2.5) P13(1.5,-2.5) P14(2.5,-2.5) P15(3.5,-2.5) P16(4.5,-2.5) P17(5.5,-2.5) P18(6.5,-2.5) P19(7.5,-2.5) P20(8.5,-2.5) P21(9.5,-2.5) P22(10.5,-2.5) R1(-10.5,-3.5) R2(-9.5,-3.5) R3(-8.5,-3.5) R4(-7.5,-3.5) R5(-6.5,-3.5) R6(-5.5,-3.5) R7(-4.5,-3.5) R8(-3.5,-3.5) R9(-2.5,-3.5) R10(-1.5,-3.5) R11(-0.5,-3.5) R12(0.5,-3.5) R13(1.5,-3.5) R14(2.5,-3.5) R15(3.5,-3.5) R16(4.5,-3.5) R17(5.5,-3.5) R18(6.5,-3.5) R19(7.5,-3.5) R20(8.5,-3.5) R21(9.5,-3.5) R22(10.5,-3.5) T1(-10.5,-4.5) T2(-9.5,-4.5) T3(-8.5,-4.5) T4(-7.5,-4.5) T5(-6.5,-4.5) T6(-5.5,-4.5) T7(-4.5,-4.5) T8(-3.5,-4.5) T9(-2.5,-4.5) T10(-1.5,-4.5) T11(-0.5,-4.5) T12(0.5,-4.5) T13(1.5,-4.5) T14(2.5,-4.5) T15(3.5,-4.5) T16(4.5,-4.5) T17(5.5,-4.5) T18(6.5,-4.5) T19(7.5,-4.5) T20(8.5,-4.5) T21(9.5,-4.5) T22(10.5,-4.5) U1(-10.5,-5.5) U2(-9.5,-5.5) U3(-8.5,-5.5) U4(-7.5,-5.5) U5(-6.5,-5.5) U6(-5.5,-5.5) U7(-4.5,-5.5) U8(-3.5,-5.5) U9(-2.5,-5.5) U10(-1.5,-5.5) U11(-0.5,-5.5) U12(0.5,-5.5) U13(1.5,-5.5) U14(2.5,-5.5) U15(3.5,-5.5) U16(4.5,-5.5) U17(5.5,-5.5) U18(6.5,-5.5) U19(7.5,-5.5) U20(8.5,-5.5) U21(9.5,-5.5) U22(10.5,-5.5) V1(-10.5,-6.5) V2(-9.5,-6.5) V3(-8.5,-6.5) V4(-7.5,-6.5) V5(-6.5,-6.5) V6(-5.5,-6.5) V7(-4.5,-6.5) V8(-3.5,-6.5) V9(-2.5,-6.5) V10(-1.5,-6.5) V11(-0.5,-6.5) V12(0.5,-6.5) V13(1.5,-6.5) V14(2.5,-6.5) V15(3.5,-6.5) V16(4.5,-6.5) V17(5.5,-6.5) V18(6.5,-6.5) V19(7.5,-6.5) V20(8.5,-6.5) V21(9.5,-6.5) V22(10.5,-6.5) W1(-10.5,-7.5) W2(-9.5,-7.5) W3(-8.5,-7.5) W4(-7.5,-7.5) W5(-6.5,-7.5) W6(-5.5,-7.5) W7(-4.5,-7.5) W8(-3.5,-7.5) W9(-2.5,-7.5) W10(-1.5,-7.5) W11(-0.5,-7.5) W12(0.5,-7.5) W13(1.5,-7.5) W14(2.5,-7.5) W15(3.5,-7.5) W16(4.5,-7.5) W17(5.5,-7.5) W18(6.5,-7.5) W19(7.5,-7.5) W20(8.5,-7.5) W21(9.5,-7.5) W22(10.5,-7.5) Y1(-10.5,-8.5) Y2(-9.5,-8.5) Y3(-8.5,-8.5) Y4(-7.5,-8.5) Y5(-6.5,-8.5) Y6(-5.5,-8.5) Y7(-4.5,-8.5) Y8(-3.5,-8.5) Y9(-2.5,-8.5) Y10(-1.5,-8.5) Y11(-0.5,-8.5) Y12(0.5,-8.5) Y13(1.5,-8.5) Y14(2.5,-8.5) Y15(3.5,-8.5) Y16(4.5,-8.5) Y17(5.5,-8.5) Y18(6.5,-8.5) Y19(7.5,-8.5) Y20(8.5,-8.5) Y21(9.5,-8.5) Y22(10.5,-8.5)
Top Overlay:
  lines w0.15: -11.5,-11.5 11.5,-11.5 11.5,11.5 -10.7,11.5 -11.5,10.7 -11.5,-11.5

## BGA484-1R27-29X29 [mm]
pads (484):
  round 0.6 smd: A1(-13.335,13.335) A2(-12.065,13.335) A3(-10.795,13.335) A4(-9.525,13.335) A5(-8.255,13.335) A6(-6.985,13.335) A7(-5.715,13.335) A8(-4.445,13.335) A9(-3.175,13.335) A10(-1.905,13.335) A11(-0.635,13.335) A12(0.635,13.335) A13(1.905,13.335) A14(3.175,13.335) A15(4.445,13.335) A16(5.715,13.335) A17(6.985,13.335) A18(8.255,13.335) A19(9.525,13.335) A20(10.795,13.335) A21(12.065,13.335) A22(13.335,13.335) AA1(-13.335,-12.065) AA2(-12.065,-12.065) AA3(-10.795,-12.065) AA4(-9.525,-12.065) AA5(-8.255,-12.065) AA6(-6.985,-12.065) AA7(-5.715,-12.065) AA8(-4.445,-12.065) AA9(-3.175,-12.065) AA10(-1.905,-12.065) AA11(-0.635,-12.065) AA12(0.635,-12.065) AA13(1.905,-12.065) AA14(3.175,-12.065) AA15(4.445,-12.065) AA16(5.715,-12.065) AA17(6.985,-12.065) AA18(8.255,-12.065) AA19(9.525,-12.065) AA20(10.795,-12.065) AA21(12.065,-12.065) AA22(13.335,-12.065) AB1(-13.335,-13.335) AB2(-12.065,-13.335) AB3(-10.795,-13.335) AB4(-9.525,-13.335) AB5(-8.255,-13.335) AB6(-6.985,-13.335) AB7(-5.715,-13.335) AB8(-4.445,-13.335) AB9(-3.175,-13.335) AB10(-1.905,-13.335) AB11(-0.635,-13.335) AB12(0.635,-13.335) AB13(1.905,-13.335) AB14(3.175,-13.335) AB15(4.445,-13.335) AB16(5.715,-13.335) AB17(6.985,-13.335) AB18(8.255,-13.335) AB19(9.525,-13.335) AB20(10.795,-13.335) AB21(12.065,-13.335) AB22(13.335,-13.335) B1(-13.335,12.065) B2(-12.065,12.065) B3(-10.795,12.065) B4(-9.525,12.065) B5(-8.255,12.065) B6(-6.985,12.065) B7(-5.715,12.065) B8(-4.445,12.065) B9(-3.175,12.065) B10(-1.905,12.065) B11(-0.635,12.065) B12(0.635,12.065) B13(1.905,12.065) B14(3.175,12.065) B15(4.445,12.065) B16(5.715,12.065) B17(6.985,12.065) B18(8.255,12.065) B19(9.525,12.065) B20(10.795,12.065) B21(12.065,12.065) B22(13.335,12.065) C1(-13.335,10.795) C2(-12.065,10.795) C3(-10.795,10.795) C4(-9.525,10.795) C5(-8.255,10.795) C6(-6.985,10.795) C7(-5.715,10.795) C8(-4.445,10.795) C9(-3.175,10.795) C10(-1.905,10.795) C11(-0.635,10.795) C12(0.635,10.795) C13(1.905,10.795) C14(3.175,10.795) C15(4.445,10.795) C16(5.715,10.795) C17(6.985,10.795) C18(8.255,10.795) C19(9.525,10.795) C20(10.795,10.795) C21(12.065,10.795) C22(13.335,10.795) D1(-13.335,9.525) D2(-12.065,9.525) D3(-10.795,9.525) D4(-9.525,9.525) D5(-8.255,9.525) D6(-6.985,9.525) D7(-5.715,9.525) D8(-4.445,9.525) D9(-3.175,9.525) D10(-1.905,9.525) D11(-0.635,9.525) D12(0.635,9.525) D13(1.905,9.525) D14(3.175,9.525) D15(4.445,9.525) D16(5.715,9.525) D17(6.985,9.525) D18(8.255,9.525) D19(9.525,9.525) D20(10.795,9.525) D21(12.065,9.525) D22(13.335,9.525) E1(-13.335,8.255) E2(-12.065,8.255) E3(-10.795,8.255) E4(-9.525,8.255) E5(-8.255,8.255) E6(-6.985,8.255) E7(-5.715,8.255) E8(-4.445,8.255) E9(-3.175,8.255) E10(-1.905,8.255) E11(-0.635,8.255) E12(0.635,8.255) E13(1.905,8.255) E14(3.175,8.255) E15(4.445,8.255) E16(5.715,8.255) E17(6.985,8.255) E18(8.255,8.255) E19(9.525,8.255) E20(10.795,8.255) E21(12.065,8.255) E22(13.335,8.255) F1(-13.335,6.985) F2(-12.065,6.985) F3(-10.795,6.985) F4(-9.525,6.985) F5(-8.255,6.985) F6(-6.985,6.985) F7(-5.715,6.985) F8(-4.445,6.985) F9(-3.175,6.985) F10(-1.905,6.985) F11(-0.635,6.985) F12(0.635,6.985) F13(1.905,6.985) F14(3.175,6.985) F15(4.445,6.985) F16(5.715,6.985) F17(6.985,6.985) F18(8.255,6.985) F19(9.525,6.985) F20(10.795,6.985) F21(12.065,6.985) F22(13.335,6.985) G1(-13.335,5.715) G2(-12.065,5.715) G3(-10.795,5.715) G4(-9.525,5.715) G5(-8.255,5.715) G6(-6.985,5.715) G7(-5.715,5.715) G8(-4.445,5.715) G9(-3.175,5.715) G10(-1.905,5.715) G11(-0.635,5.715) G12(0.635,5.715) G13(1.905,5.715) G14(3.175,5.715) G15(4.445,5.715) G16(5.715,5.715) G17(6.985,5.715) G18(8.255,5.715) G19(9.525,5.715) G20(10.795,5.715) G21(12.065,5.715) G22(13.335,5.715) H1(-13.335,4.445) H2(-12.065,4.445) H3(-10.795,4.445) H4(-9.525,4.445) H5(-8.255,4.445) H6(-6.985,4.445) H7(-5.715,4.445) H8(-4.445,4.445) H9(-3.175,4.445) H10(-1.905,4.445) H11(-0.635,4.445) H12(0.635,4.445) H13(1.905,4.445) H14(3.175,4.445) H15(4.445,4.445) H16(5.715,4.445) H17(6.985,4.445) H18(8.255,4.445) H19(9.525,4.445) H20(10.795,4.445) H21(12.065,4.445) H22(13.335,4.445) J1(-13.335,3.175) J2(-12.065,3.175) J3(-10.795,3.175) J4(-9.525,3.175) J5(-8.255,3.175) J6(-6.985,3.175) J7(-5.715,3.175) J8(-4.445,3.175) J9(-3.175,3.175) J10(-1.905,3.175) J11(-0.635,3.175) J12(0.635,3.175) J13(1.905,3.175) J14(3.175,3.175) J15(4.445,3.175) J16(5.715,3.175) J17(6.985,3.175) J18(8.255,3.175) J19(9.525,3.175) J20(10.795,3.175) J21(12.065,3.175) J22(13.335,3.175) K1(-13.335,1.905) K2(-12.065,1.905) K3(-10.795,1.905) K4(-9.525,1.905) K5(-8.255,1.905) K6(-6.985,1.905) K7(-5.715,1.905) K8(-4.445,1.905) K9(-3.175,1.905) K10(-1.905,1.905) K11(-0.635,1.905) K12(0.635,1.905) K13(1.905,1.905) K14(3.175,1.905) K15(4.445,1.905) K16(5.715,1.905) K17(6.985,1.905) K18(8.255,1.905) K19(9.525,1.905) K20(10.795,1.905) K21(12.065,1.905) K22(13.335,1.905) L1(-13.335,0.635) L2(-12.065,0.635) L3(-10.795,0.635) L4(-9.525,0.635) L5(-8.255,0.635) L6(-6.985,0.635) L7(-5.715,0.635) L8(-4.445,0.635) L9(-3.175,0.635) L10(-1.905,0.635) L11(-0.635,0.635) L12(0.635,0.635) L13(1.905,0.635) L14(3.175,0.635) L15(4.445,0.635) L16(5.715,0.635) L17(6.985,0.635) L18(8.255,0.635) L19(9.525,0.635) L20(10.795,0.635) L21(12.065,0.635) L22(13.335,0.635) M1(-13.335,-0.635) M2(-12.065,-0.635) M3(-10.795,-0.635) M4(-9.525,-0.635) M5(-8.255,-0.635) M6(-6.985,-0.635) M7(-5.715,-0.635) M8(-4.445,-0.635) M9(-3.175,-0.635) M10(-1.905,-0.635) M11(-0.635,-0.635) M12(0.635,-0.635) M13(1.905,-0.635) M14(3.175,-0.635) M15(4.445,-0.635) M16(5.715,-0.635) M17(6.985,-0.635) M18(8.255,-0.635) M19(9.525,-0.635) M20(10.795,-0.635) M21(12.065,-0.635) M22(13.335,-0.635) N1(-13.335,-1.905) N2(-12.065,-1.905) N3(-10.795,-1.905) N4(-9.525,-1.905) N5(-8.255,-1.905) N6(-6.985,-1.905) N7(-5.715,-1.905) N8(-4.445,-1.905) N9(-3.175,-1.905) N10(-1.905,-1.905) N11(-0.635,-1.905) N12(0.635,-1.905) N13(1.905,-1.905) N14(3.175,-1.905) N15(4.445,-1.905) N16(5.715,-1.905) N17(6.985,-1.905) N18(8.255,-1.905) N19(9.525,-1.905) N20(10.795,-1.905) N21(12.065,-1.905) N22(13.335,-1.905) P1(-13.335,-3.175) P2(-12.065,-3.175) P3(-10.795,-3.175) P4(-9.525,-3.175) P5(-8.255,-3.175) P6(-6.985,-3.175) P7(-5.715,-3.175) P8(-4.445,-3.175) P9(-3.175,-3.175) P10(-1.905,-3.175) P11(-0.635,-3.175) P12(0.635,-3.175) P13(1.905,-3.175) P14(3.175,-3.175) P15(4.445,-3.175) P16(5.715,-3.175) P17(6.985,-3.175) P18(8.255,-3.175) P19(9.525,-3.175) P20(10.795,-3.175) P21(12.065,-3.175) P22(13.335,-3.175) R1(-13.335,-4.445) R2(-12.065,-4.445) R3(-10.795,-4.445) R4(-9.525,-4.445) R5(-8.255,-4.445) R6(-6.985,-4.445) R7(-5.715,-4.445) R8(-4.445,-4.445) R9(-3.175,-4.445) R10(-1.905,-4.445) R11(-0.635,-4.445) R12(0.635,-4.445) R13(1.905,-4.445) R14(3.175,-4.445) R15(4.445,-4.445) R16(5.715,-4.445) R17(6.985,-4.445) R18(8.255,-4.445) R19(9.525,-4.445) R20(10.795,-4.445) R21(12.065,-4.445) R22(13.335,-4.445) T1(-13.335,-5.715) T2(-12.065,-5.715) T3(-10.795,-5.715) T4(-9.525,-5.715) T5(-8.255,-5.715) T6(-6.985,-5.715) T7(-5.715,-5.715) T8(-4.445,-5.715) T9(-3.175,-5.715) T10(-1.905,-5.715) T11(-0.635,-5.715) T12(0.635,-5.715) T13(1.905,-5.715) T14(3.175,-5.715) T15(4.445,-5.715) T16(5.715,-5.715) T17(6.985,-5.715) T18(8.255,-5.715) T19(9.525,-5.715) T20(10.795,-5.715) T21(12.065,-5.715) T22(13.335,-5.715) U1(-13.335,-6.985) U2(-12.065,-6.985) U3(-10.795,-6.985) U4(-9.525,-6.985) U5(-8.255,-6.985) U6(-6.985,-6.985) U7(-5.715,-6.985) U8(-4.445,-6.985) U9(-3.175,-6.985) U10(-1.905,-6.985) U11(-0.635,-6.985) U12(0.635,-6.985) U13(1.905,-6.985) U14(3.175,-6.985) U15(4.445,-6.985) U16(5.715,-6.985) U17(6.985,-6.985) U18(8.255,-6.985) U19(9.525,-6.985) U20(10.795,-6.985) U21(12.065,-6.985) U22(13.335,-6.985) V1(-13.335,-8.255) V2(-12.065,-8.255) V3(-10.795,-8.255) V4(-9.525,-8.255) V5(-8.255,-8.255) V6(-6.985,-8.255) V7(-5.715,-8.255) V8(-4.445,-8.255) V9(-3.175,-8.255) V10(-1.905,-8.255) V11(-0.635,-8.255) V12(0.635,-8.255) V13(1.905,-8.255) V14(3.175,-8.255) V15(4.445,-8.255) V16(5.715,-8.255) V17(6.985,-8.255) V18(8.255,-8.255) V19(9.525,-8.255) V20(10.795,-8.255) V21(12.065,-8.255) V22(13.335,-8.255) W1(-13.335,-9.525) W2(-12.065,-9.525) W3(-10.795,-9.525) W4(-9.525,-9.525) W5(-8.255,-9.525) W6(-6.985,-9.525) W7(-5.715,-9.525) W8(-4.445,-9.525) W9(-3.175,-9.525) W10(-1.905,-9.525) W11(-0.635,-9.525) W12(0.635,-9.525) W13(1.905,-9.525) W14(3.175,-9.525) W15(4.445,-9.525) W16(5.715,-9.525) W17(6.985,-9.525) W18(8.255,-9.525) W19(9.525,-9.525) W20(10.795,-9.525) W21(12.065,-9.525) W22(13.335,-9.525) Y1(-13.335,-10.795) Y2(-12.065,-10.795) Y3(-10.795,-10.795) Y4(-9.525,-10.795) Y5(-8.255,-10.795) Y6(-6.985,-10.795) Y7(-5.715,-10.795) Y8(-4.445,-10.795) Y9(-3.175,-10.795) Y10(-1.905,-10.795) Y11(-0.635,-10.795) Y12(0.635,-10.795) Y13(1.905,-10.795) Y14(3.175,-10.795) Y15(4.445,-10.795) Y16(5.715,-10.795) Y17(6.985,-10.795) Y18(8.255,-10.795) Y19(9.525,-10.795) Y20(10.795,-10.795) Y21(12.065,-10.795) Y22(13.335,-10.795)
Top Overlay:
  lines w0.15: -14.5,-14.5 14.5,-14.5 14.5,14.5 -13.7,14.5 -14.5,13.7 -14.5,-14.5

## BGA576-1-25X25 [mm]
pads (576):
  round 0.48 smd: A1(-11.5,11.5) A2(-10.5,11.5) A3(-9.5,11.5) A4(-8.5,11.5) A5(-7.5,11.5) A6(-6.5,11.5) A7(-5.5,11.5) A8(-4.5,11.5) A9(-3.5,11.5) A10(-2.5,11.5) A11(-1.5,11.5) A12(-0.5,11.5) A13(0.5,11.5) A14(1.5,11.5) A15(2.5,11.5) A16(3.5,11.5) A17(4.5,11.5) A18(5.5,11.5) A19(6.5,11.5) A20(7.5,11.5) A21(8.5,11.5) A22(9.5,11.5) A23(10.5,11.5) A24(11.5,11.5) AA1(-11.5,-8.5) AA2(-10.5,-8.5) AA3(-9.5,-8.5) AA4(-8.5,-8.5) AA5(-7.5,-8.5) AA6(-6.5,-8.5) AA7(-5.5,-8.5) AA8(-4.5,-8.5) AA9(-3.5,-8.5) AA10(-2.5,-8.5) AA11(-1.5,-8.5) AA12(-0.5,-8.5) AA13(0.5,-8.5) AA14(1.5,-8.5) AA15(2.5,-8.5) AA16(3.5,-8.5) AA17(4.5,-8.5) AA18(5.5,-8.5) AA19(6.5,-8.5) AA20(7.5,-8.5) AA21(8.5,-8.5) AA22(9.5,-8.5) AA23(10.5,-8.5) AA24(11.5,-8.5) AB1(-11.5,-9.5) AB2(-10.5,-9.5) AB3(-9.5,-9.5) AB4(-8.5,-9.5) AB5(-7.5,-9.5) AB6(-6.5,-9.5) AB7(-5.5,-9.5) AB8(-4.5,-9.5) AB9(-3.5,-9.5) AB10(-2.5,-9.5) AB11(-1.5,-9.5) AB12(-0.5,-9.5) AB13(0.5,-9.5) AB14(1.5,-9.5) AB15(2.5,-9.5) AB16(3.5,-9.5) AB17(4.5,-9.5) AB18(5.5,-9.5) AB19(6.5,-9.5) AB20(7.5,-9.5) AB21(8.5,-9.5) AB22(9.5,-9.5) AB23(10.5,-9.5) AB24(11.5,-9.5) AC1(-11.5,-10.5) AC2(-10.5,-10.5) AC3(-9.5,-10.5) AC4(-8.5,-10.5) AC5(-7.5,-10.5) AC6(-6.5,-10.5) AC7(-5.5,-10.5) AC8(-4.5,-10.5) AC9(-3.5,-10.5) AC10(-2.5,-10.5) AC11(-1.5,-10.5) AC12(-0.5,-10.5) AC13(0.5,-10.5) AC14(1.5,-10.5) AC15(2.5,-10.5) AC16(3.5,-10.5) AC17(4.5,-10.5) AC18(5.5,-10.5) AC19(6.5,-10.5) AC20(7.5,-10.5) AC21(8.5,-10.5) AC22(9.5,-10.5) AC23(10.5,-10.5) AC24(11.5,-10.5) AD1(-11.5,-11.5) AD2(-10.5,-11.5) AD3(-9.5,-11.5) AD4(-8.5,-11.5) AD5(-7.5,-11.5) AD6(-6.5,-11.5) AD7(-5.5,-11.5) AD8(-4.5,-11.5) AD9(-3.5,-11.5) AD10(-2.5,-11.5) AD11(-1.5,-11.5) AD12(-0.5,-11.5) AD13(0.5,-11.5) AD14(1.5,-11.5) AD15(2.5,-11.5) AD16(3.5,-11.5) AD17(4.5,-11.5) AD18(5.5,-11.5) AD19(6.5,-11.5) AD20(7.5,-11.5) AD21(8.5,-11.5) AD22(9.5,-11.5) AD23(10.5,-11.5) AD24(11.5,-11.5) B1(-11.5,10.5) B2(-10.5,10.5) B3(-9.5,10.5) B4(-8.5,10.5) B5(-7.5,10.5) B6(-6.5,10.5) B7(-5.5,10.5) B8(-4.5,10.5) B9(-3.5,10.5) B10(-2.5,10.5) B11(-1.5,10.5) B12(-0.5,10.5) B13(0.5,10.5) B14(1.5,10.5) B15(2.5,10.5) B16(3.5,10.5) B17(4.5,10.5) B18(5.5,10.5) B19(6.5,10.5) B20(7.5,10.5) B21(8.5,10.5) B22(9.5,10.5) B23(10.5,10.5) B24(11.5,10.5) C1(-11.5,9.5) C2(-10.5,9.5) C3(-9.5,9.5) C4(-8.5,9.5) C5(-7.5,9.5) C6(-6.5,9.5) C7(-5.5,9.5) C8(-4.5,9.5) C9(-3.5,9.5) C10(-2.5,9.5) C11(-1.5,9.5) C12(-0.5,9.5) C13(0.5,9.5) C14(1.5,9.5) C15(2.5,9.5) C16(3.5,9.5) C17(4.5,9.5) C18(5.5,9.5) C19(6.5,9.5) C20(7.5,9.5) C21(8.5,9.5) C22(9.5,9.5) C23(10.5,9.5) C24(11.5,9.5) D1(-11.5,8.5) D2(-10.5,8.5) D3(-9.5,8.5) D4(-8.5,8.5) D5(-7.5,8.5) D6(-6.5,8.5) D7(-5.5,8.5) D8(-4.5,8.5) D9(-3.5,8.5) D10(-2.5,8.5) D11(-1.5,8.5) D12(-0.5,8.5) D13(0.5,8.5) D14(1.5,8.5) D15(2.5,8.5) D16(3.5,8.5) D17(4.5,8.5) D18(5.5,8.5) D19(6.5,8.5) D20(7.5,8.5) D21(8.5,8.5) D22(9.5,8.5) D23(10.5,8.5) D24(11.5,8.5) E1(-11.5,7.5) E2(-10.5,7.5) E3(-9.5,7.5) E4(-8.5,7.5) E5(-7.5,7.5) E6(-6.5,7.5) E7(-5.5,7.5) E8(-4.5,7.5) E9(-3.5,7.5) E10(-2.5,7.5) E11(-1.5,7.5) E12(-0.5,7.5) E13(0.5,7.5) E14(1.5,7.5) E15(2.5,7.5) E16(3.5,7.5) E17(4.5,7.5) E18(5.5,7.5) E19(6.5,7.5) E20(7.5,7.5) E21(8.5,7.5) E22(9.5,7.5) E23(10.5,7.5) E24(11.5,7.5) F1(-11.5,6.5) F2(-10.5,6.5) F3(-9.5,6.5) F4(-8.5,6.5) F5(-7.5,6.5) F6(-6.5,6.5) F7(-5.5,6.5) F8(-4.5,6.5) F9(-3.5,6.5) F10(-2.5,6.5) F11(-1.5,6.5) F12(-0.5,6.5) F13(0.5,6.5) F14(1.5,6.5) F15(2.5,6.5) F16(3.5,6.5) F17(4.5,6.5) F18(5.5,6.5) F19(6.5,6.5) F20(7.5,6.5) F21(8.5,6.5) F22(9.5,6.5) F23(10.5,6.5) F24(11.5,6.5) G1(-11.5,5.5) G2(-10.5,5.5) G3(-9.5,5.5) G4(-8.5,5.5) G5(-7.5,5.5) G6(-6.5,5.5) G7(-5.5,5.5) G8(-4.5,5.5) G9(-3.5,5.5) G10(-2.5,5.5) G11(-1.5,5.5) G12(-0.5,5.5) G13(0.5,5.5) G14(1.5,5.5) G15(2.5,5.5) G16(3.5,5.5) G17(4.5,5.5) G18(5.5,5.5) G19(6.5,5.5) G20(7.5,5.5) G21(8.5,5.5) G22(9.5,5.5) G23(10.5,5.5) G24(11.5,5.5) H1(-11.5,4.5) H2(-10.5,4.5) H3(-9.5,4.5) H4(-8.5,4.5) H5(-7.5,4.5) H6(-6.5,4.5) H7(-5.5,4.5) H8(-4.5,4.5) H9(-3.5,4.5) H10(-2.5,4.5) H11(-1.5,4.5) H12(-0.5,4.5) H13(0.5,4.5) H14(1.5,4.5) H15(2.5,4.5) H16(3.5,4.5) H17(4.5,4.5) H18(5.5,4.5) H19(6.5,4.5) H20(7.5,4.5) H21(8.5,4.5) H22(9.5,4.5) H23(10.5,4.5) H24(11.5,4.5) J1(-11.5,3.5) J2(-10.5,3.5) J3(-9.5,3.5) J4(-8.5,3.5) J5(-7.5,3.5) J6(-6.5,3.5) J7(-5.5,3.5) J8(-4.5,3.5) J9(-3.5,3.5) J10(-2.5,3.5) J11(-1.5,3.5) J12(-0.5,3.5) J13(0.5,3.5) J14(1.5,3.5) J15(2.5,3.5) J16(3.5,3.5) J17(4.5,3.5) J18(5.5,3.5) J19(6.5,3.5) J20(7.5,3.5) J21(8.5,3.5) J22(9.5,3.5) J23(10.5,3.5) J24(11.5,3.5) K1(-11.5,2.5) K2(-10.5,2.5) K3(-9.5,2.5) K4(-8.5,2.5) K5(-7.5,2.5) K6(-6.5,2.5) K7(-5.5,2.5) K8(-4.5,2.5) K9(-3.5,2.5) K10(-2.5,2.5) K11(-1.5,2.5) K12(-0.5,2.5) K13(0.5,2.5) K14(1.5,2.5) K15(2.5,2.5) K16(3.5,2.5) K17(4.5,2.5) K18(5.5,2.5) K19(6.5,2.5) K20(7.5,2.5) K21(8.5,2.5) K22(9.5,2.5) K23(10.5,2.5) K24(11.5,2.5) L1(-11.5,1.5) L2(-10.5,1.5) L3(-9.5,1.5) L4(-8.5,1.5) L5(-7.5,1.5) L6(-6.5,1.5) L7(-5.5,1.5) L8(-4.5,1.5) L9(-3.5,1.5) L10(-2.5,1.5) L11(-1.5,1.5) L12(-0.5,1.5) L13(0.5,1.5) L14(1.5,1.5) L15(2.5,1.5) L16(3.5,1.5) L17(4.5,1.5) L18(5.5,1.5) L19(6.5,1.5) L20(7.5,1.5) L21(8.5,1.5) L22(9.5,1.5) L23(10.5,1.5) L24(11.5,1.5) M1(-11.5,0.5) M2(-10.5,0.5) M3(-9.5,0.5) M4(-8.5,0.5) M5(-7.5,0.5) M6(-6.5,0.5) M7(-5.5,0.5) M8(-4.5,0.5) M9(-3.5,0.5) M10(-2.5,0.5) M11(-1.5,0.5) M12(-0.5,0.5) M13(0.5,0.5) M14(1.5,0.5) M15(2.5,0.5) M16(3.5,0.5) M17(4.5,0.5) M18(5.5,0.5) M19(6.5,0.5) M20(7.5,0.5) M21(8.5,0.5) M22(9.5,0.5) M23(10.5,0.5) M24(11.5,0.5) N1(-11.5,-0.5) N2(-10.5,-0.5) N3(-9.5,-0.5) N4(-8.5,-0.5) N5(-7.5,-0.5) N6(-6.5,-0.5) N7(-5.5,-0.5) N8(-4.5,-0.5) N9(-3.5,-0.5) N10(-2.5,-0.5) N11(-1.5,-0.5) N12(-0.5,-0.5) N13(0.5,-0.5) N14(1.5,-0.5) N15(2.5,-0.5) N16(3.5,-0.5) N17(4.5,-0.5) N18(5.5,-0.5) N19(6.5,-0.5) N20(7.5,-0.5) N21(8.5,-0.5) N22(9.5,-0.5) N23(10.5,-0.5) N24(11.5,-0.5) P1(-11.5,-1.5) P2(-10.5,-1.5) P3(-9.5,-1.5) P4(-8.5,-1.5) P5(-7.5,-1.5) P6(-6.5,-1.5) P7(-5.5,-1.5) P8(-4.5,-1.5) P9(-3.5,-1.5) P10(-2.5,-1.5) P11(-1.5,-1.5) P12(-0.5,-1.5) P13(0.5,-1.5) P14(1.5,-1.5) P15(2.5,-1.5) P16(3.5,-1.5) P17(4.5,-1.5) P18(5.5,-1.5) P19(6.5,-1.5) P20(7.5,-1.5) P21(8.5,-1.5) P22(9.5,-1.5) P23(10.5,-1.5) P24(11.5,-1.5) R1(-11.5,-2.5) R2(-10.5,-2.5) R3(-9.5,-2.5) R4(-8.5,-2.5) R5(-7.5,-2.5) R6(-6.5,-2.5) R7(-5.5,-2.5) R8(-4.5,-2.5) R9(-3.5,-2.5) R10(-2.5,-2.5) R11(-1.5,-2.5) R12(-0.5,-2.5) R13(0.5,-2.5) R14(1.5,-2.5) R15(2.5,-2.5) R16(3.5,-2.5) R17(4.5,-2.5) R18(5.5,-2.5) R19(6.5,-2.5) R20(7.5,-2.5) R21(8.5,-2.5) R22(9.5,-2.5) R23(10.5,-2.5) R24(11.5,-2.5) T1(-11.5,-3.5) T2(-10.5,-3.5) T3(-9.5,-3.5) T4(-8.5,-3.5) T5(-7.5,-3.5) T6(-6.5,-3.5) T7(-5.5,-3.5) T8(-4.5,-3.5) T9(-3.5,-3.5) T10(-2.5,-3.5) T11(-1.5,-3.5) T12(-0.5,-3.5) T13(0.5,-3.5) T14(1.5,-3.5) T15(2.5,-3.5) T16(3.5,-3.5) T17(4.5,-3.5) T18(5.5,-3.5) T19(6.5,-3.5) T20(7.5,-3.5) T21(8.5,-3.5) T22(9.5,-3.5) T23(10.5,-3.5) T24(11.5,-3.5) U1(-11.5,-4.5) U2(-10.5,-4.5) U3(-9.5,-4.5) U4(-8.5,-4.5) U5(-7.5,-4.5) U6(-6.5,-4.5) U7(-5.5,-4.5) U8(-4.5,-4.5) U9(-3.5,-4.5) U10(-2.5,-4.5) U11(-1.5,-4.5) U12(-0.5,-4.5) U13(0.5,-4.5) U14(1.5,-4.5) U15(2.5,-4.5) U16(3.5,-4.5) U17(4.5,-4.5) U18(5.5,-4.5) U19(6.5,-4.5) U20(7.5,-4.5) U21(8.5,-4.5) U22(9.5,-4.5) U23(10.5,-4.5) U24(11.5,-4.5) V1(-11.5,-5.5) V2(-10.5,-5.5) V3(-9.5,-5.5) V4(-8.5,-5.5) V5(-7.5,-5.5) V6(-6.5,-5.5) V7(-5.5,-5.5) V8(-4.5,-5.5) V9(-3.5,-5.5) V10(-2.5,-5.5) V11(-1.5,-5.5) V12(-0.5,-5.5) V13(0.5,-5.5) V14(1.5,-5.5) V15(2.5,-5.5) V16(3.5,-5.5) V17(4.5,-5.5) V18(5.5,-5.5) V19(6.5,-5.5) V20(7.5,-5.5) V21(8.5,-5.5) V22(9.5,-5.5) V23(10.5,-5.5) V24(11.5,-5.5) W1(-11.5,-6.5) W2(-10.5,-6.5) W3(-9.5,-6.5) W4(-8.5,-6.5) W5(-7.5,-6.5) W6(-6.5,-6.5) W7(-5.5,-6.5) W8(-4.5,-6.5) W9(-3.5,-6.5) W10(-2.5,-6.5) W11(-1.5,-6.5) W12(-0.5,-6.5) W13(0.5,-6.5) W14(1.5,-6.5) W15(2.5,-6.5) W16(3.5,-6.5) W17(4.5,-6.5) W18(5.5,-6.5) W19(6.5,-6.5) W20(7.5,-6.5) W21(8.5,-6.5) W22(9.5,-6.5) W23(10.5,-6.5) W24(11.5,-6.5) Y1(-11.5,-7.5) Y2(-10.5,-7.5) Y3(-9.5,-7.5) Y4(-8.5,-7.5) Y5(-7.5,-7.5) Y6(-6.5,-7.5) Y7(-5.5,-7.5) Y8(-4.5,-7.5) Y9(-3.5,-7.5) Y10(-2.5,-7.5) Y11(-1.5,-7.5) Y12(-0.5,-7.5) Y13(0.5,-7.5) Y14(1.5,-7.5) Y15(2.5,-7.5) Y16(3.5,-7.5) Y17(4.5,-7.5) Y18(5.5,-7.5) Y19(6.5,-7.5) Y20(7.5,-7.5) Y21(8.5,-7.5) Y22(9.5,-7.5) Y23(10.5,-7.5) Y24(11.5,-7.5)
Top Overlay:
  lines w0.15: -12.5,-12.5 12.5,-12.5 12.5,12.5 -11.7,12.5 -12.5,11.7 -12.5,-12.5